# Altium schematic symbol library Schlib1.SchLib: 4 symbols
Pins are listed as number, name and electrical type; pins without a type are passive.

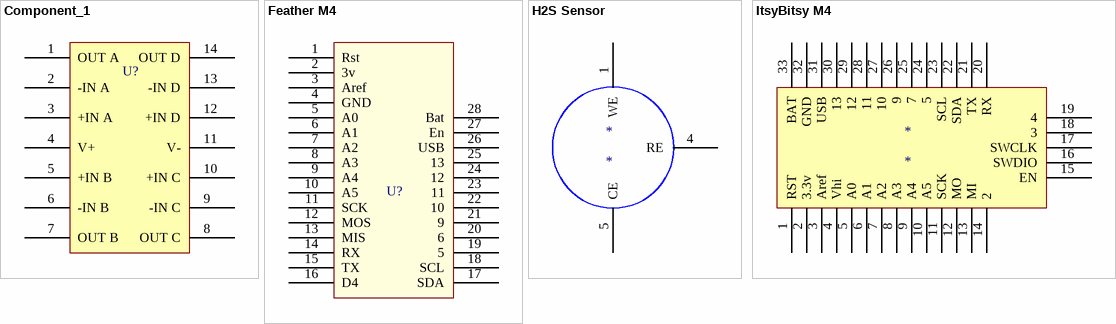
[diagram p0: symbols Component_1 to ItsyBitsy M4]

## Component_1
designator U?, comment TLV6004  (value not drawn)
footprint *SOP65P640X120-14N
pins: 1 OUT A, 2 -IN A, 3 +IN A, 4 V+, 5 +IN B, 6 -IN B, 7 OUT B, 8 OUT C, 9 -IN C, 10 +IN C, 11 V-, 12 +IN D, 13 -IN D, 14 OUT D

## Feather M4
designator U?  (value not drawn)
footprint *ADAFRUIT_2829_2829(Primary)
pins: 1 Rst, 2 3v, 3 Aref, 4 GND, 5 A0, 6 A1, 7 A2, 8 A3, 9 A4, 10 A5, 11 SCK, 12 MOS, 13 MIS, 14 RX, 15 TX, 16 D4, 17 SDA, 18 SCL, 19 5, 20 6, 21 9, 22 10, 23 11, 24 12, 25 13, 26 USB, 27 En, 28 Bat

## H2S Sensor
designator *
pins: 1 WE, 2 NC hidden, 3 NC hidden, 4 RE, 5 CE, 6 WE hidden to WE

## ItsyBitsy M4
designator *
footprint ItsyBitsy M4
pins: 1 RST, 2 3.3v, 3 Aref, 4 Vhi, 5 A0, 6 A1, 7 A2, 8 A3, 9 A4, 10 A5, 11 SCK, 12 MO, 13 MI, 14 2, 15 EN, 16 SWDIO, 17 SWCLK, 18 3, 19 4, 20 RX, 21 TX, 22 SDA, 23 SCL, 24 5, 25 7, 26 9, 27 10, 28 11, 29 12, 30 13, 31 USB, 32 GND, 33 BAT